# Altium schematic symbol library 610 0xx 243 021.SchLib: 17 symbols
Pins are listed as number, name and electrical type; pins without a type are passive.

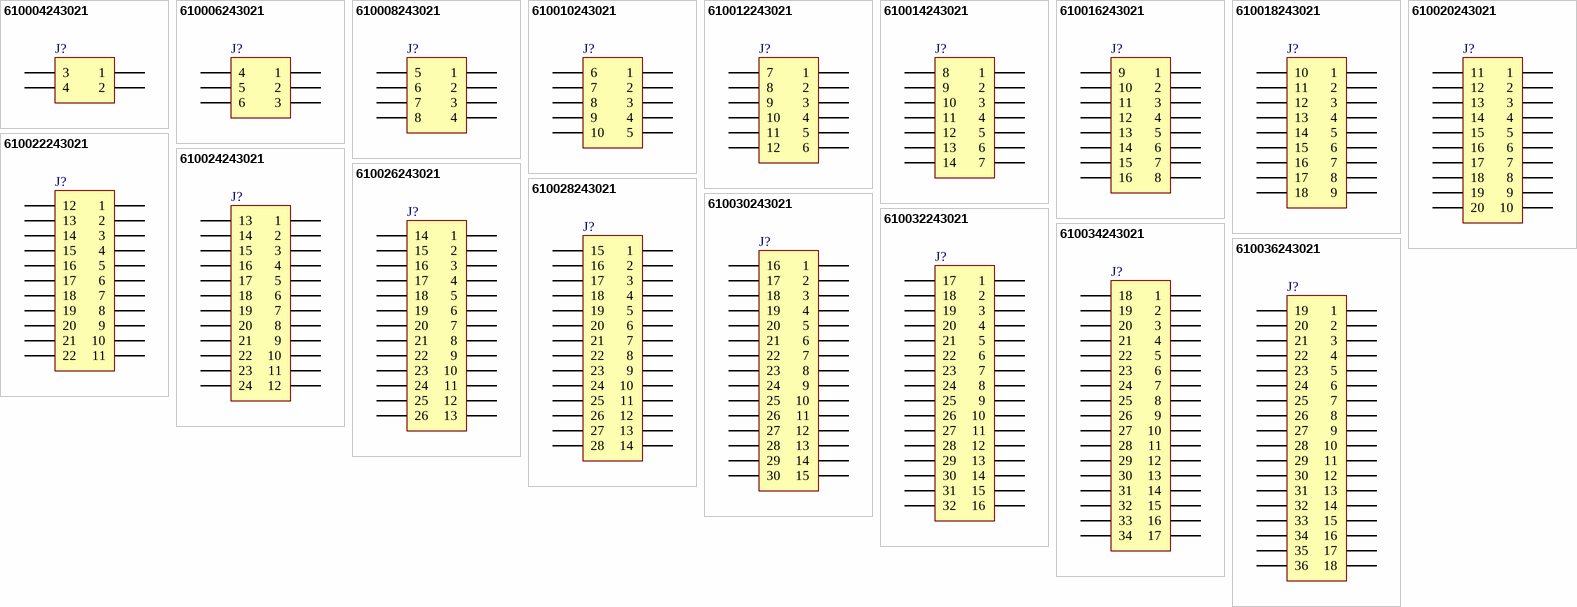
[diagram p0: symbols 610004243021 to 610036243021]

## 610004243021
designator J?, comment 04p  (value not drawn)
WR-PHD 2.54 mm SMT Dual Socket Header Bottom Entry, 04p; PartNumber: 610004243021; PublishedDate: July 2016; Publisher: Wurth Elektronik; ComponentLink1Description: Manufacturer; ComponentLink1URL: http://www.we-online.de; ComponentLink2Description: Datasheet; ComponentLink2URL: http://katalog.we-online.de/em/datasheet/6100xx243021.pdf; PinNumber: 04p
footprint 610004243021
pins: 1, 2, 3, 4

## 610006243021
designator J?, comment 06p  (value not drawn)
WR-PHD 2.54 mm SMT Dual Socket Header Bottom Entry, 06p; PartNumber: 610006243021; PublishedDate: July 2016; Publisher: Wurth Elektronik; ComponentLink1Description: Manufacturer; ComponentLink1URL: http://www.we-online.de; ComponentLink2Description: Datasheet; ComponentLink2URL: http://katalog.we-online.de/em/datasheet/6100xx243021.pdf; PinNumber: 06p
footprint 610006243021
pins: 1, 2, 3, 4, 5, 6

## 610008243021
designator J?, comment 08p  (value not drawn)
WR-PHD 2.54 mm SMT Dual Socket Header Bottom Entry, 08p; PartNumber: 610008243021; PublishedDate: July 2016; Publisher: Wurth Elektronik; ComponentLink1Description: Manufacturer; ComponentLink1URL: http://www.we-online.de; ComponentLink2Description: Datasheet; ComponentLink2URL: http://katalog.we-online.de/em/datasheet/6100xx243021.pdf; PinNumber: 08p
footprint 610008243021
pins: 1, 2, 3, 4, 5, 6, 7, 8

## 610010243021
designator J?, comment 10p  (value not drawn)
WR-PHD 2.54 mm SMT Dual Socket Header Bottom Entry, 10p; PartNumber: 610010243021; PublishedDate: July 2016; Publisher: Wurth Elektronik; ComponentLink1Description: Manufacturer; ComponentLink1URL: http://www.we-online.de; ComponentLink2Description: Datasheet; ComponentLink2URL: http://katalog.we-online.de/em/datasheet/6100xx243021.pdf; PinNumber: 10p
footprint 610010243021
pins: 1, 2, 3, 4, 5, 6, 7, 8, 9, 10

## 610012243021
designator J?, comment 12p  (value not drawn)
WR-PHD 2.54 mm SMT Dual Socket Header Bottom Entry, 12p; PartNumber: 610012243021; PublishedDate: July 2016; Publisher: Wurth Elektronik; ComponentLink1Description: Manufacturer; ComponentLink1URL: http://www.we-online.de; ComponentLink2Description: Datasheet; ComponentLink2URL: http://katalog.we-online.de/em/datasheet/6100xx243021.pdf; PinNumber: 12p
footprint 610012243021
pins: 1, 2, 3, 4, 5, 6, 7, 8, 9, 10, 11, 12

## 610014243021
designator J?, comment 14p  (value not drawn)
WR-PHD 2.54 mm SMT Dual Socket Header Bottom Entry, 14p; PartNumber: 610014243021; PublishedDate: July 2016; Publisher: Wurth Elektronik; ComponentLink1Description: Manufacturer; ComponentLink1URL: http://www.we-online.de; ComponentLink2Description: Datasheet; ComponentLink2URL: http://katalog.we-online.de/em/datasheet/6100xx243021.pdf; PinNumber: 14p
footprint 610014243021
pins: 1, 2, 3, 4, 5, 6, 7, 8, 9, 10, 11, 12, 13, 14

## 610016243021
designator J?, comment 16p  (value not drawn)
WR-PHD 2.54 mm SMT Dual Socket Header Bottom Entry, 16p; PartNumber: 610016243021; PublishedDate: July 2016; Publisher: Wurth Elektronik; ComponentLink1Description: Manufacturer; ComponentLink1URL: http://www.we-online.de; ComponentLink2Description: Datasheet; ComponentLink2URL: http://katalog.we-online.de/em/datasheet/6100xx243021.pdf; PinNumber: 16p
footprint 610016243021
pins: 1, 2, 3, 4, 5, 6, 7, 8, 9, 10, 11, 12, 13, 14, 15, 16

## 610018243021
designator J?, comment 18p  (value not drawn)
WR-PHD 2.54 mm SMT Dual Socket Header Bottom Entry, 18p; PartNumber: 610018243021; PublishedDate: July 2016; Publisher: Wurth Elektronik; ComponentLink1Description: Manufacturer; ComponentLink1URL: http://www.we-online.de; ComponentLink2Description: Datasheet; ComponentLink2URL: http://katalog.we-online.de/em/datasheet/6100xx243021.pdf; PinNumber: 18p
footprint 610018243021
pins: 1, 2, 3, 4, 5, 6, 7, 8, 9, 10, 11, 12, 13, 14, 15, 16, 17, 18

## 610020243021
designator J?, comment 20p  (value not drawn)
WR-PHD 2.54 mm SMT Dual Socket Header Bottom Entry, 20p; PartNumber: 610020243021; PublishedDate: July 2016; Publisher: Wurth Elektronik; ComponentLink1Description: Manufacturer; ComponentLink1URL: http://www.we-online.de; ComponentLink2Description: Datasheet; ComponentLink2URL: http://katalog.we-online.de/em/datasheet/6100xx243021.pdf; PinNumber: 20p
footprint 610020243021
pins: 1, 2, 3, 4, 5, 6, 7, 8, 9, 10, 11, 12, 13, 14, 15, 16, 17, 18, 19, 20

## 610022243021
designator J?, comment 22p  (value not drawn)
WR-PHD 2.54 mm SMT Dual Socket Header Bottom Entry, 22p; PartNumber: 610022243021; PublishedDate: July 2016; Publisher: Wurth Elektronik; ComponentLink1Description: Manufacturer; ComponentLink1URL: http://www.we-online.de; ComponentLink2Description: Datasheet; ComponentLink2URL: http://katalog.we-online.de/em/datasheet/6100xx243021.pdf; PinNumber: 22p
footprint 610022243021
pins: 1, 2, 3, 4, 5, 6, 7, 8, 9, 10, 11, 12, 13, 14, 15, 16, 17, 18, 19, 20, 21, 22

## 610024243021
designator J?, comment 24p  (value not drawn)
WR-PHD 2.54 mm SMT Dual Socket Header Bottom Entry, 24p; PartNumber: 610024243021; PublishedDate: July 2016; Publisher: Wurth Elektronik; ComponentLink1Description: Manufacturer; ComponentLink1URL: http://www.we-online.de; ComponentLink2Description: Datasheet; ComponentLink2URL: http://katalog.we-online.de/em/datasheet/6100xx243021.pdf; PinNumber: 24p
footprint 610024243021
pins: 1, 2, 3, 4, 5, 6, 7, 8, 9, 10, 11, 12, 13, 14, 15, 16, 17, 18, 19, 20, 21, 22, 23, 24

## 610026243021
designator J?, comment 26p  (value not drawn)
WR-PHD 2.54 mm SMT Dual Socket Header Bottom Entry, 26p; PartNumber: 610026243021; PublishedDate: July 2016; Publisher: Wurth Elektronik; ComponentLink1Description: Manufacturer; ComponentLink1URL: http://www.we-online.de; ComponentLink2Description: Datasheet; ComponentLink2URL: http://katalog.we-online.de/em/datasheet/6100xx243021.pdf; PinNumber: 26p
footprint 610026243021
pins: 1, 2, 3, 4, 5, 6, 7, 8, 9, 10, 11, 12, 13, 14, 15, 16, 17, 18, 19, 20, 21, 22, 23, 24, 25, 26

## 610028243021
designator J?, comment 28p  (value not drawn)
WR-PHD 2.54 mm SMT Dual Socket Header Bottom Entry, 28p; PartNumber: 610028243021; PublishedDate: July 2016; Publisher: Wurth Elektronik; ComponentLink1Description: Manufacturer; ComponentLink1URL: http://www.we-online.de; ComponentLink2Description: Datasheet; ComponentLink2URL: http://katalog.we-online.de/em/datasheet/6100xx243021.pdf; PinNumber: 28p
footprint 610028243021
pins: 1, 2, 3, 4, 5, 6, 7, 8, 9, 10, 11, 12, 13, 14, 15, 16, 17, 18, 19, 20, 21, 22, 23, 24, 25, 26, 27, 28

## 610030243021
designator J?, comment 30p  (value not drawn)
WR-PHD 2.54 mm SMT Dual Socket Header Bottom Entry, 30p; PartNumber: 610030243021; PublishedDate: July 2016; Publisher: Wurth Elektronik; ComponentLink1Description: Manufacturer; ComponentLink1URL: http://www.we-online.de; ComponentLink2Description: Datasheet; ComponentLink2URL: http://katalog.we-online.de/em/datasheet/6100xx243021.pdf; PinNumber: 30p
footprint 610030243021
pins: 1, 2, 3, 4, 5, 6, 7, 8, 9, 10, 11, 12, 13, 14, 15, 16, 17, 18, 19, 20, 21, 22, 23, 24, 25, 26, 27, 28, 29, 30

## 610032243021
designator J?, comment 32p  (value not drawn)
WR-PHD 2.54 mm SMT Dual Socket Header Bottom Entry, 32p; PartNumber: 610032243021; PublishedDate: July 2016; Publisher: Wurth Elektronik; ComponentLink1Description: Manufacturer; ComponentLink1URL: http://www.we-online.de; ComponentLink2Description: Datasheet; ComponentLink2URL: http://katalog.we-online.de/em/datasheet/6100xx243021.pdf; PinNumber: 32p
footprint 610032243021
pins: 1, 2, 3, 4, 5, 6, 7, 8, 9, 10, 11, 12, 13, 14, 15, 16, 17, 18, 19, 20, 21, 22, 23, 24, 25, 26, 27, 28, 29, 30, 31, 32

## 610034243021
designator J?, comment 34p  (value not drawn)
WR-PHD 2.54 mm SMT Dual Socket Header Bottom Entry, 34p; PartNumber: 610034243021; PublishedDate: July 2016; Publisher: Wurth Elektronik; ComponentLink1Description: Manufacturer; ComponentLink1URL: http://www.we-online.de; ComponentLink2Description: Datasheet; ComponentLink2URL: http://katalog.we-online.de/em/datasheet/6100xx243021.pdf; PinNumber: 34p
footprint 610034243021
pins: 1, 2, 3, 4, 5, 6, 7, 8, 9, 10, 11, 12, 13, 14, 15, 16, 17, 18, 19, 20, 21, 22, 23, 24, 25, 26, 27, 28, 29, 30, 31, 32, 33, 34

## 610036243021
designator J?, comment 36p  (value not drawn)
WR-PHD 2.54 mm SMT Dual Socket Header Bottom Entry, 36p; PartNumber: 610036243021; PublishedDate: July 2016; Publisher: Wurth Elektronik; ComponentLink1Description: Manufacturer; ComponentLink1URL: http://www.we-online.de; ComponentLink2Description: Datasheet; ComponentLink2URL: http://katalog.we-online.de/em/datasheet/6100xx243021.pdf; PinNumber: 36p
footprint 610036243021
pins: 1, 2, 3, 4, 5, 6, 7, 8, 9, 10, 11, 12, 13, 14, 15, 16, 17, 18, 19, 20, 21, 22, 23, 24, 25, 26, 27, 28, 29, 30, 31, 32, 33, 34, 35, 36